# Altium schematic symbol library 16TRV470M10X10.5.SchLib: 1 symbol
Pins are listed as number, name and electrical type; pins without a type are passive.

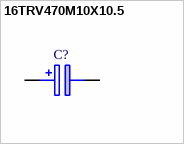
[diagram p0: symbol 16TRV470M10X10.5]

## 16TRV470M10X10.5
designator C?
Aluminum Electrolytic Capacitors - SMD LONG LIFE ELECTROLYTIC CAPACITORS; Manufacturer_Name: Rubycon; Geometry.Height: 10.5mm; Mouser Part Number: 232-16TRV470M10X10.5; Mouser Price/Stock: https://www.mouser.co.uk/ProductDetail/Rubycon/16TRV470M10X105?qs=T3oQrply3y940smn1RbN5g%3D%3D; Manufacturer_Part_Number: 16TRV470M10X10.5; Datasheet Link: http://www.rubycon.co.jp/en/catalog/e_pdfs/aluminum/e_TRV.pdf
footprint CAPAE1030X1050N
pins: 1 +, 2 -